# EAGLE library part SCREW_TERMINAL_6 (library Amplifier_Parts)
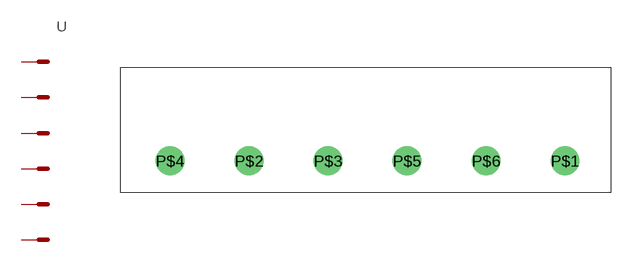
[diagram p6: symbol with the pads of SCREW_TERMINAL_6; footprint SCREW_TERMINAL_6]

Designator prefix -

## SCREW_TERMINAL_6  [SCREW_TERMINAL_6]
P$1  S1  pas
P$2  S2  pas
P$3  S3  pas
P$4  S4  pas
P$5  S5  pas
P$6  S6  pas

## Footprint SCREW_TERMINAL_6 (pad centres in mm)
drill 2: P$1 20.36,-1.81; P$2 -12.64,-1.81; P$3 -4.39,-1.81; P$4 -20.89,-1.81; P$5 3.86,-1.81; P$6 12.11,-1.81